# Altium footprint library Cap_AVX_F950J476MPAAQ2_eec_0.PcbLib: 1 footprints
Each footprint in its own frame and in the unit in brackets; x right, y up, seen from the top. Pads: shape width x height; smd on the part's side, far side on the other; paste and mask are expansions set on the pad; w line width, h text height; cw(c..) or ccw(c..) is an arc to the next point about the centre after c.
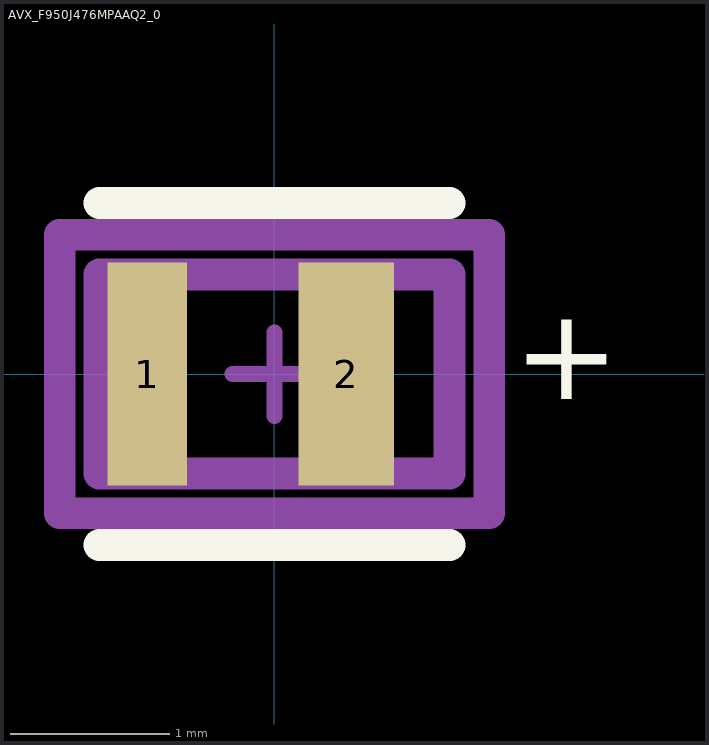
[diagram p0: the footprint, top view; thin cyan lines are the x and y axes]

## AVX_F950J476MPAAQ2_0 [mm]
pads (2):
  rect 0.5x1.4 smd paste+0 mask+0: 1(-0.8,0)
  rect 0.6x1.4 smd paste+0 mask+0: 2(0.45,0)
Top Overlay:
  lines w0.2: -1.1,-1.075 1.1,-1.075 ; -1.1,1.075 1.1,1.075
  text "+" at 1.5,-0.35 h1
Mechanical 10:
  lines w0.2: -1.35,-0.875 1.35,-0.875 1.35,0.875 -1.35,0.875 -1.35,-0.875
  text ".Designator" at 0,0 h1
Mechanical 12:
  lines w0.2: -1.1,-0.625 1.1,-0.625 1.1,0.625 -1.1,0.625 -1.1,-0.625
Mechanical 15:
  lines w0.1: -0.262,0 0.262,0 ; 0,-0.265 0,0.26
  lines w0.2: -1.35,-0.875 1.35,-0.875 1.35,0.875 -1.35,0.875 -1.35,-0.875
3D body "Cap_AVX_F950J476MPAAQ2_eec.STEP": height 0.25, standoff 0, extent -1.35,-0.875 1.35,0.875